# Altium footprint library IC_Texas_Instruments_SN74AHCT125N_eec_0.PcbLib: 1 footprints
Each footprint in its own frame and in the unit in brackets; x right, y up, seen from the top. Pads: shape width x height; smd on the part's side, far side on the other; paste and mask are expansions set on the pad; w line width, h text height; cw(c..) or ccw(c..) is an arc to the next point about the centre after c.
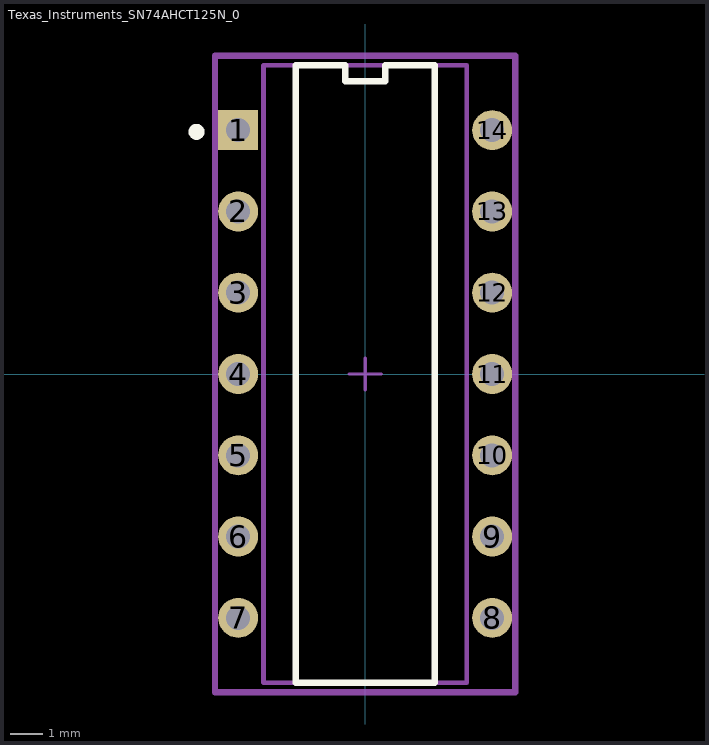
[diagram p0: the footprint, top view; thin cyan lines are the x and y axes]

## Texas_Instruments_SN74AHCT125N_0 [mm]
pads (14):
  rect 1.25x1.25 hole 0.75 paste-1000 mask+0: 1(-3.97,7.62)
  round 1.25 hole 0.75 paste-1000 mask+0: 2(-3.97,5.08) 3(-3.97,2.54) 4(-3.97,0) 5(-3.97,-2.54) 6(-3.97,-5.08) 7(-3.97,-7.62) 8(3.97,-7.62) 9(3.97,-5.08) 10(3.97,-2.54) 11(3.97,0) 12(3.97,2.54) 13(3.97,5.08) 14(3.97,7.62)
Top Overlay:
  circle w0.25: c-5.27,7.57 r0.125
  lines w0.2: -2.175,-9.653 -2.175,9.653 -0.621,9.653 -0.621,9.152 0.621,9.152 0.621,9.653 2.175,9.653 2.175,-9.653 -2.175,-9.653
Mechanical 10:
  lines w0.2: -4.695,-9.945 4.695,-9.945 4.695,9.945 -4.695,9.945 -4.695,-9.945
  text ".Designator" at 0,0 h1
Mechanical 12:
  lines w0.15: -3.175,-9.653 3.175,-9.653 3.175,9.653 -3.175,9.653 -3.175,-9.653
Mechanical 15:
  lines w0.1: -0.5,0 0.5,0 ; 0,-0.5 0,0.5
  lines w0.2: -4.695,-9.945 4.695,-9.945 4.695,9.945 -4.695,9.945 -4.695,-9.945